# EAGLE library part ISO1050DUB (library texas)
ISOLATED CAN TRANSCEIVER
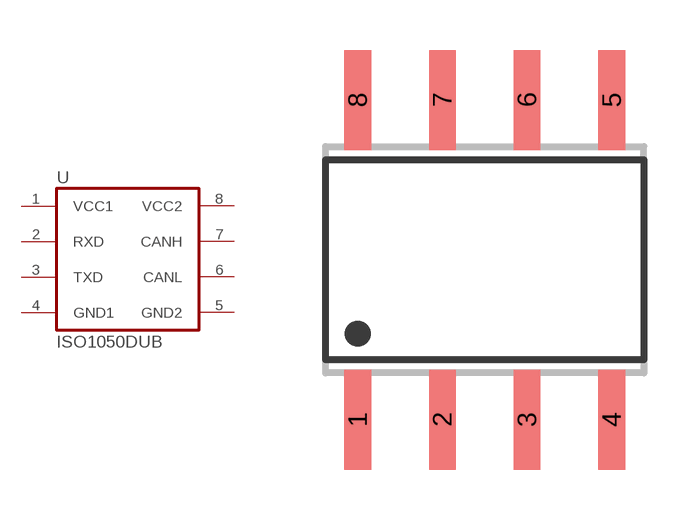
[diagram p54: symbol with the pads of SOP08-DUB; footprint SOP08-DUB]

Designator prefix U

## ISO1050DUB  [SOP08-DUB]
1  VCC1  pas
2  RXD  out
3  TXD  in
4  GND1  pas
5  GND2  pas
6  CANL
7  CANH
8  VCC2  pas

## Footprint SOP08-DUB (pad centres in mm)
SMALL OUTLINE INTEGRATED CIRCUIT DUB (R-PDSO-G8), body 6.67 mm X 9.55 mm
smd 0.8 x 3: 1 -3.81,-4.8; 2 -1.27,-4.8; 3 1.27,-4.8; 4 3.81,-4.8; 5 3.81,4.8; 6 1.27,4.8; 7 -1.27,4.8; 8 -3.81,4.8